# Altium schematic symbol library LP2985.SchLib: 1 symbol
Pins are listed as number, name and electrical type; pins without a type are passive.

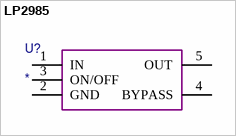
[diagram p0: symbol LP2985]

## LP2985
designator U?
pins: 1 IN, 2 GND, 3 ON/OFF, 4 BYPASS, 5 OUT